# EAGLE library part ZL-855 (library Deegou_Discrete)
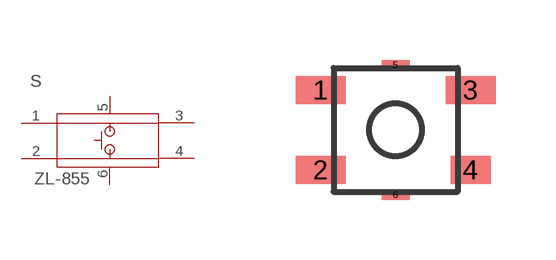
[diagram p6: symbol with the pads of ZL-855; footprint ZL-855]

Designator prefix S

## ZL-855  [ZL-855]
1  P$1
2  P$2
3  P$3
4  P$4
5  P$5
6  P$6

## Footprint ZL-855 (pad centres in mm)
smd 1.25 x 0.7: 1 -1.875,1; 2 -1.875,-1; 3 1.875,1
smd 1 x 0.7: 4 1.875,-1
smd 0.7 x 0.25: 5 0,1.625; 6 0,-1.625